# EAGLE library part SM74104 (library Bauteile)
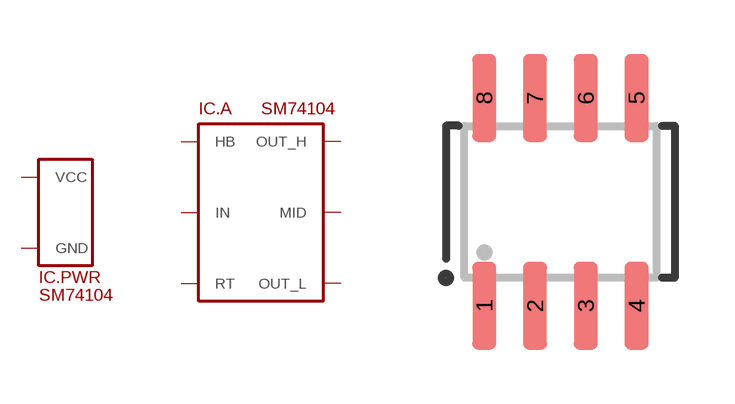
[diagram p203: symbol with the pads of SO8; footprint SO8]

Designator prefix IC; gates .PWR=SUPPLY_VCC/GND .A=SM74104

## SM74104  [SO8]
1  .PWR:VCC
2  .A:HB
3  .A:OUT_H
4  .A:MID
5  .A:RT
6  .A:IN
7  .PWR:GND
8  .A:OUT_L

## Footprint SO8 (pad centres in mm)
smd 0.6 x 2.2: 1 -1.905,-2.6; 2 -0.635,-2.6; 3 0.635,-2.6; 4 1.905,-2.6; 5 1.905,2.6; 6 0.635,2.6; 7 -0.635,2.6; 8 -1.905,2.6